# Altium schematic symbol library конденсаторы.SchLib: 23 symbols
Pins are listed as number, name and electrical type; pins without a type are passive.

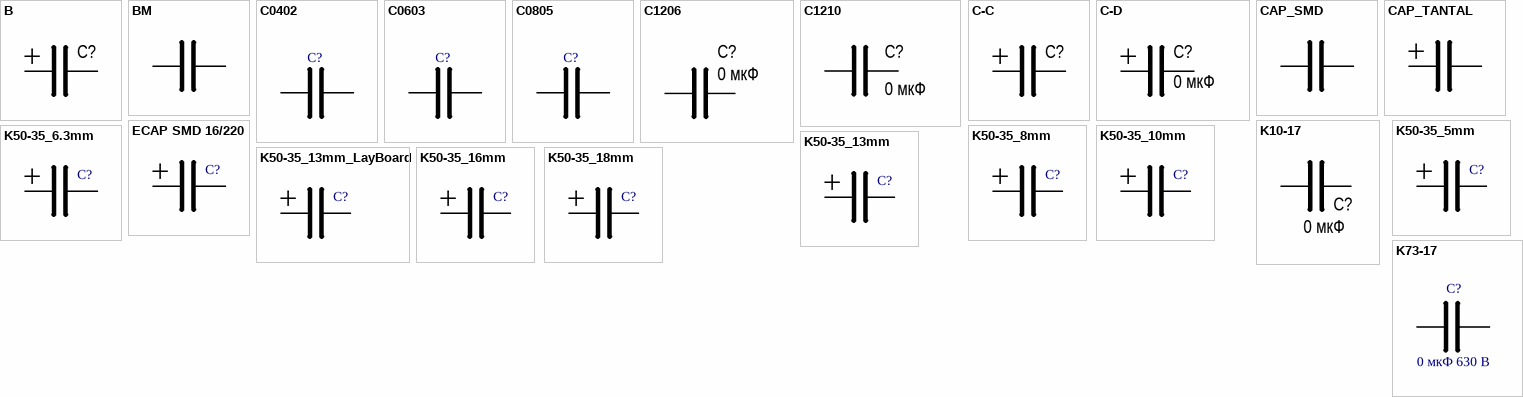
[diagram p0: symbols B to K73-17]

## B
designator C?, comment 0 мкФ  (value not drawn)
footprint B-B
pins: 1, 2

## BM
designator C?  (value not drawn)
Rem: *; Package: *; Value: *; Tolerance: *; Power/Voltage: *; TKE: *; ManufacturerPartNumber: *; Manufacturer: *; Quantity: *; Примечание: *; URL: http://www.bm-cap.com/products/mkpmkph-mini-size-induction-heating-capacitors/
footprint BM_275VAC_2uF
footprint BM_400VDC_5uF
footprint BM_1200VDC_0.3uF
pins: 1, 2

## C0402
designator C?  (value not drawn)
Rem: *; Package: *; Value: *; Tolerance: *; Power/Voltage: *; TKE: *; ManufacturerPartNumber: *; Manufacturer: *; Quantity: *; Примечание: *
footprint C0402
pins: 1, 2

## C0603
designator C?  (value not drawn)
Rem: *; Package: *; Value: *; Tolerance: *; Power/Voltage: *; TKE: *; ManufacturerPartNumber: *; Manufacturer: *; Quantity: *; Примечание: *
footprint C0603
pins: 1, 2

## C0805
designator C?  (value not drawn)
Rem: *; Package: *; Value: *; Tolerance: *; Power/Voltage: *; TKE: *; ManufacturerPartNumber: *; Manufacturer: *; Quantity: *; Примечание: *
footprint C0805
pins: 1, 2

## C1206
designator C?, comment 0 мкФ
footprint C1206
pins: 1, 2

## C1210
designator C?, comment 0 мкФ
footprint C1210
pins: 1, 2

## C-C
designator C?, comment 0 мкФ  (value not drawn)
footprint C-C
pins: 1, 2

## C-D
designator C?, comment 0 мкФ
footprint C-D
pins: 1, 2

## CAP_SMD
designator C?  (value not drawn)
Rem: *; Package: *; Value: *; Tolerance: *; Power/Voltage: *; TKE: *; ManufacturerPartNumber: *; Manufacturer: *; Quantity: *; Примечание: *
footprint C0402
footprint C0603
footprint C0805
footprint C1206
footprint C1210
pins: 1, 2

## CAP_TANTAL
designator C?  (value not drawn)
Rem: *; Value: *; Tolerance: *; Power/Voltage: *; TKE: *; ManufacturerPartNumber: *; Manufacturer: *; Quantity: *; Примечание: *
footprint TANTAL_A
footprint TANTAL_B
pins: 1, 2

## ECAP SMD 16/220
designator C?, comment 0 мкФ  (value not drawn)
footprint CAPA_ALUM 6.3x7.7 (Aluminum Electrolytic Capacitor, Body 6,60x6,60x6,30mm, IPC Low Density)
footprint CAPA_ALUM_10_10
pins: 1, 2

## K10-17
designator C?, comment 0 мкФ
K10-17; PartNumber: *
footprint K10-17_7_3x13
pins: 1, 2

## K50-35_5mm
designator C?, comment 0 мкФ  (value not drawn)
footprint K50-35_5mm
pins: 1, 2

## K50-35_6.3mm
designator C?, comment 0 мкФ  (value not drawn)
footprint K50-35_6.3mm
pins: 1, 2

## K50-35_8mm
designator C?, comment 0 мкФ  (value not drawn)
footprint K50-35_6.3mm
footprint K50-35_8mm
pins: 1, 2

## K50-35_10mm
designator C?, comment 0 мкФ  (value not drawn)
footprint K50-35_6.3mm
footprint K50-35_10mm
pins: 1, 2

## K50-35_13mm
designator C?, comment 0 мкФ  (value not drawn)
footprint K50-35_6.3mm
footprint K50-35_13mm
pins: 1, 2

## K50-35_13mm_LayBoard
designator C?, comment 0 мкФ  (value not drawn)
footprint K50-35_6.3mm
footprint K50-35_13mm
footprint Capacitor_lay_board
pins: 1, 2

## K50-35_16mm
designator C?, comment 0 мкФ  (value not drawn)
footprint K50-35_6.3mm
footprint K50-35_16mm
pins: 1, 2

## K50-35_18mm
designator C?, comment 0 мкФ  (value not drawn)
footprint K50-35_6.3mm
footprint K50-35_18mm
pins: 1, 2

## K73-17
designator C?, comment 0 мкФ 630 В
K73-17 630 В
footprint K73-17_horizontal
footprint K10-17_7_3x13
pins: 1, 2

## РЫБА
designator C?  (value not drawn)
Rem: *; Package: *; Value: *; Tolerance: *; Power/Voltage: *; TKE: *; ManufacturerPartNumber: *; Manufacturer: *; Quantity: *; Примечание: *